# Altium footprint library Debug_connector.PcbLib: 1 footprints
Each footprint in its own frame and in the unit in brackets; x right, y up, seen from the top. Pads: shape width x height; smd on the part's side, far side on the other; paste and mask are expansions set on the pad; w line width, h text height; cw(c..) or ccw(c..) is an arc to the next point about the centre after c.
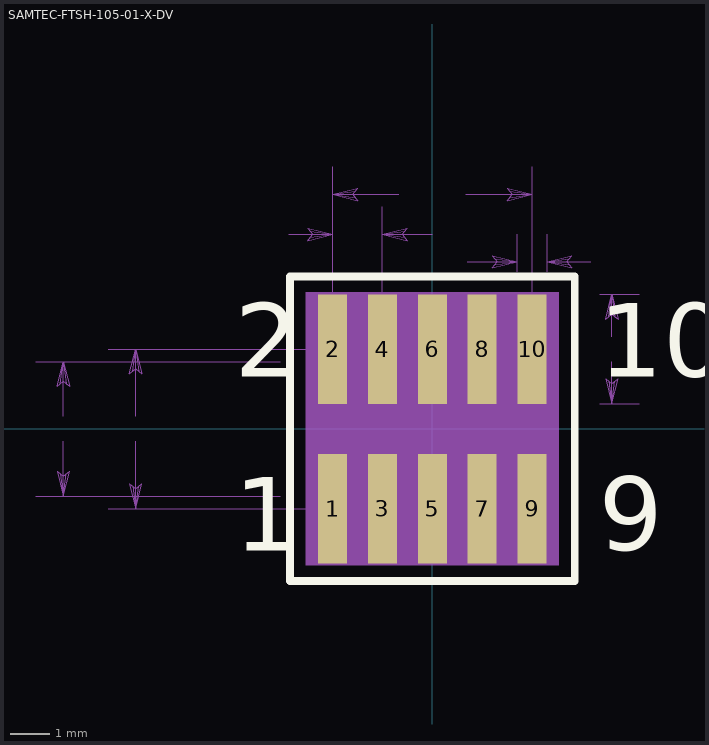
[diagram p0: the footprint, top view; thin cyan lines are the x and y axes]

## SAMTEC-FTSH-105-01-X-DV [mm]
pads (10):
  rect 0.74x2.79 smd: 1(-2.54,-2.032) 2(-2.54,2.032) 3(-1.27,-2.032) 4(-1.27,2.032) 5(0,-2.032) 6(0,2.032) 7(1.27,-2.032) 8(1.27,2.032) 9(2.54,-2.032) 10(2.54,2.032)
Top Overlay:
  lines w0.2: -3.625,-3.878 3.625,-3.878 3.625,3.878 -3.625,3.878 -3.625,-3.878
  text "10" at 4.232,1.325 h1.88
  text "9" at 4.233,-3.096 h1.88
  text "2" at -5.035,1.326 h1.88
  text "1" at -5.04,-3.1 h1.88
Top Paste:
  region: 2.172,3.427 2.91,3.427 2.91,0.638 2.172,0.638
  region: 2.173,-0.637 2.91,-0.637 2.91,-3.432 2.173,-3.432
  region: 0.9,3.427 1.64,3.427 1.64,0.637 0.9,0.637
  region: 0.9,-0.637 1.64,-0.637 1.64,-3.428 0.9,-3.428
  region: -0.37,3.427 0.37,3.427 0.37,0.637 -0.37,0.637
  region: -0.37,-0.637 0.37,-0.637 0.37,-3.428 -0.37,-3.428
  region: -1.641,3.427 -0.9,3.427 -0.9,0.637 -1.641,0.637
  region: -1.641,-0.637 -0.9,-0.637 -0.9,-3.428 -1.641,-3.428
  region: -2.912,3.427 -2.17,3.427 -2.17,0.637 -2.912,0.637
  region: -2.914,-0.637 -2.17,-0.637 -2.17,-3.431 -2.914,-3.431
Top Solder:
  region: 2.122,3.478 2.961,3.478 2.961,0.587 2.122,0.587
  region: 2.122,-0.586 2.961,-0.586 2.961,-3.484 2.122,-3.484
  region: 0.85,3.478 1.691,3.478 1.691,0.587 0.85,0.587
  region: 0.85,-0.586 1.691,-0.586 1.691,-3.482 0.85,-3.482
  region: -0.422,3.478 0.421,3.478 0.421,0.587 -0.422,0.587
  region: -0.422,-0.586 0.421,-0.586 0.421,-3.485 -0.422,-3.485
  region: -1.692,3.478 -0.849,3.478 -0.849,0.586 -1.692,0.586
  region: -1.692,-0.586 -0.849,-0.586 -0.849,-3.48 -1.692,-3.48
  region: -2.963,3.478 -2.119,3.478 -2.119,0.586 -2.963,0.586
  region: -2.966,-0.586 -2.119,-0.586 -2.119,-3.484 -2.966,-3.484
Mechanical 4:
  drawing of 482 lines, arcs and shapes, not listed
  text "0.762" at 4.232,3.881 h1.88
  text "2.794" at 3.913,1.656 h1.88
  text "10" at 4.236,1.327 h1.88
  text "9" at 4.233,-3.096 h1.88
  text "5.080" at -0.661,5.599 h1.88
  text "6.350" at -0.66,0.893 h1.88
  text "1.270" at -5.17,4.577 h1.88
  text "2" at -5.037,1.327 h1.88
  text "1" at -5.037,-3.099 h1.88
  text "3.429" at -10.072,-0.377 h1.88
  text "4.064" at -8.228,-0.377 h1.88
  text "0.762" at 4.232,3.881 h1.88
  text "2.794" at 3.913,1.656 h1.88
  text "10" at 4.236,1.327 h1.88
  text "9" at 4.233,-3.096 h1.88
  text "5.080" at -0.661,5.599 h1.88
  text "6.350" at -0.66,0.893 h1.88
  text "1.270" at -5.17,4.577 h1.88
  text "2" at -5.037,1.327 h1.88
  text "1" at -5.037,-3.099 h1.88
  text "3.429" at -10.072,-0.377 h1.88
  text "4.064" at -8.228,-0.377 h1.88
Mechanical 16:
  region: -3.225,-3.478 -3.225,3.478 3.225,3.478 3.225,-3.478